# Altium footprint library Connectors.PcbLib: 1 footprints
Each footprint in its own frame and in the unit in brackets; x right, y up, seen from the top. Pads: shape width x height; smd on the part's side, far side on the other; paste and mask are expansions set on the pad; w line width, h text height; cw(c..) or ccw(c..) is an arc to the next point about the centre after c.
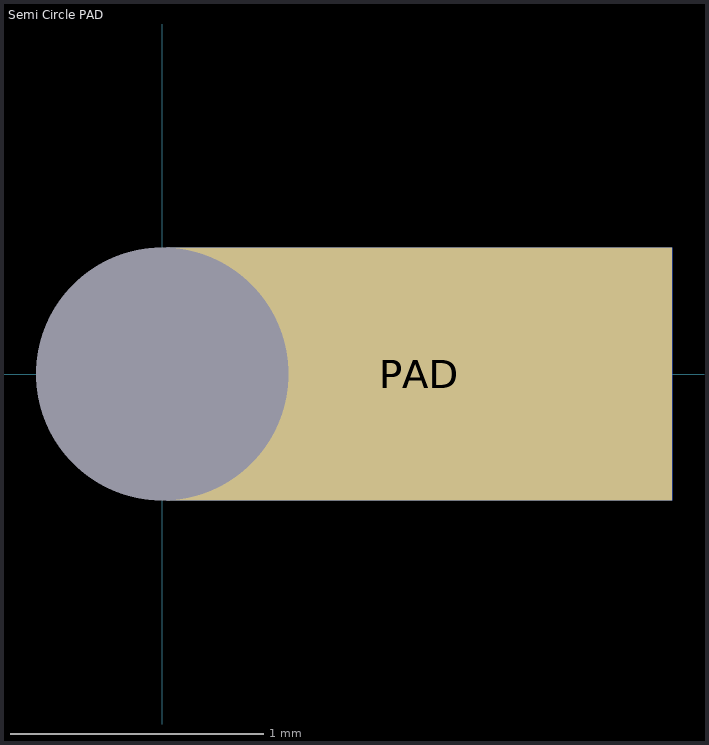
[diagram p0: the footprint, top view; thin cyan lines are the x and y axes]

## Semi Circle PAD [mm]
pads (3):
  rect 0x1 hole 1: PAD(0,0)
  rect 2x1 smd: PAD(1.016,0)
  rect 2x1 smd far side: PAD(1.016,0)